# Altium footprint library SCREW_M5.PcbLib: 1 footprints
Each footprint in its own frame and in the unit in brackets; x right, y up, seen from the top. Pads: shape width x height; smd on the part's side, far side on the other; paste and mask are expansions set on the pad; w line width, h text height; cw(c..) or ccw(c..) is an arc to the next point about the centre after c.
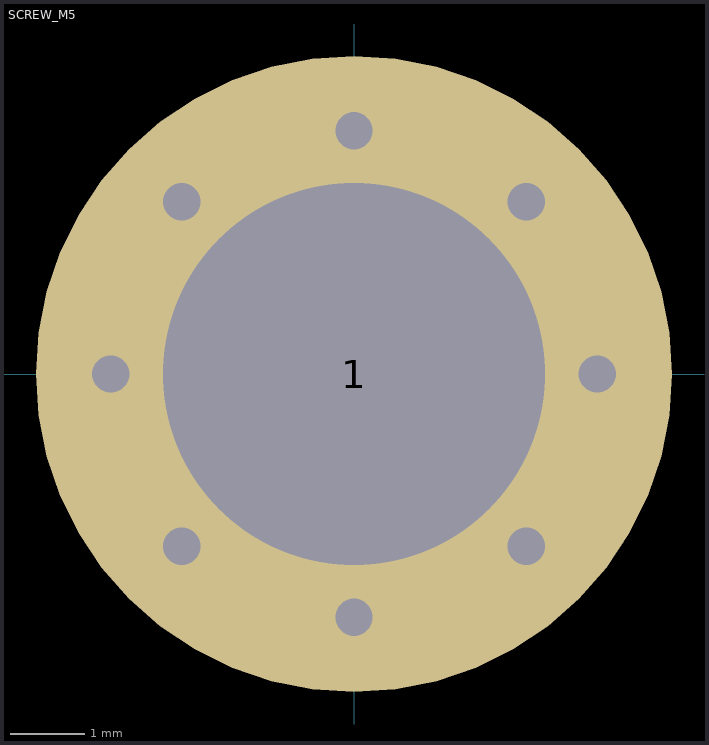
[diagram p0: the footprint, top view; thin cyan lines are the x and y axes]

## SCREW_M5 [mm]
pads (1):
  round 8.5 hole 5.1 mask+0.05: 1(0,0)
via 2.298,-2.298 diameter 0.5 hole 0.5
via 0,-3.25 diameter 0.5 hole 0.5
via -2.298,-2.298 diameter 0.5 hole 0.5
via -3.25,0 diameter 0.5 hole 0.5
via 0,3.25 diameter 0.5 hole 0.5
via -2.298,2.298 diameter 0.5 hole 0.5
via 2.298,2.298 diameter 0.5 hole 0.5
via 3.25,0 diameter 0.5 hole 0.5